# EAGLE library part IS65WV1288BLL-* (library memory-issi-asynsram)
128k x 8 low voltage, ultra low power CMOS static RAM 55ns access time 3.6V power supply
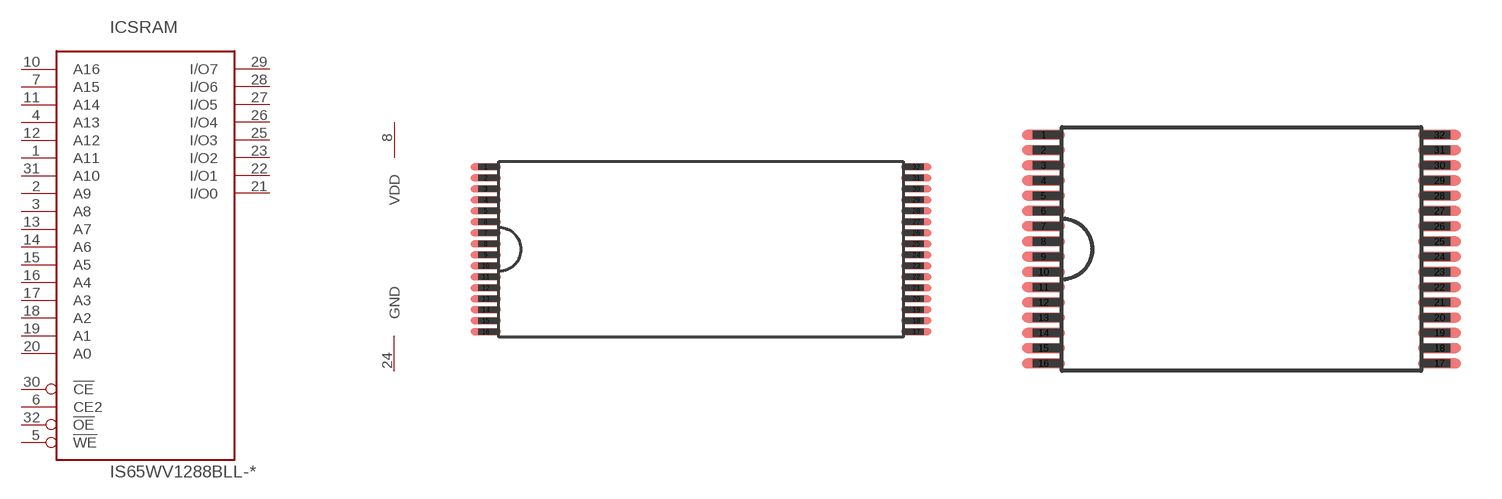
[diagram p25: symbol with the pads of TSOP-I-32-8X20MM; footprints TSOP-I-32-8X20MM, TSOP-I-32-8X13.4MM]

Designator prefix IC; gates SRAM=128KX8_TYP2 PWR=PWR_VDD1_GND1

## IS65WV1288BLL-55T  [TSOP-I-32-8X20MM]
1  SRAM:A11  in
2  SRAM:A9  in
3  SRAM:A8  in
4  SRAM:A13  in
5  SRAM:!WE  in
6  SRAM:CE2  in
7  SRAM:A15  in
8  PWR:VDD  pwr
10  SRAM:A16  in
11  SRAM:A14  in
12  SRAM:A12  in
13  SRAM:A7  in
14  SRAM:A6  in
15  SRAM:A5  in
16  SRAM:A4  in
17  SRAM:A3  in
18  SRAM:A2  in
19  SRAM:A1  in
20  SRAM:A0  in
21  SRAM:I/O0  hiz
22  SRAM:I/O1  hiz
23  SRAM:I/O2  hiz
24  PWR:GND  pwr
25  SRAM:I/O3  hiz
26  SRAM:I/O4  hiz
27  SRAM:I/O5  hiz
28  SRAM:I/O6  hiz
29  SRAM:I/O7  hiz
30  SRAM:!CE  in
31  SRAM:A10  in
32  SRAM:!OE  in

## IS65WV1288BLL-55H  [TSOP-I-32-8X13.4MM]
Pads as for TSOP-I-32-8X20MM

## Footprint TSOP-I-32-8X20MM (pad centres in mm)
TSOP-I-32 32-pin thin small-outline package, Typ I
smd 1.4 x 0.33: 1 -9.8,3.75; 2 -9.8,3.25; 3 -9.8,2.75; 4 -9.8,2.25; 5 -9.8,1.75; 6 -9.8,1.25; 7 -9.8,0.75; 8 -9.8,0.25; 9 -9.8,-0.25; 10 -9.8,-0.75; 11 -9.8,-1.25; 12 -9.8,-1.75; 13 -9.8,-2.25; 14 -9.8,-2.75; 15 -9.8,-3.25; 16 -9.8,-3.75; 17 9.8,-3.75; 18 9.8,-3.25; 19 9.8,-2.75; 20 9.8,-2.25; 21 9.8,-1.75; 22 9.8,-1.25; 23 9.8,-0.75; 24 9.8,-0.25; 25 9.8,0.25; 26 9.8,0.75; 27 9.8,1.25; 28 9.8,1.75; 29 9.8,2.25; 30 9.8,2.75; 31 9.8,3.25; 32 9.8,3.75

## Footprint TSOP-I-32-8X13.4MM (pad centres in mm)
TSOP-I-32 32-pin thin small-outline package, Typ I
smd 1.4 x 0.33: 1 -6.5,3.75; 2 -6.5,3.25; 3 -6.5,2.75; 4 -6.5,2.25; 5 -6.5,1.75; 6 -6.5,1.25; 7 -6.5,0.75; 8 -6.5,0.25; 9 -6.5,-0.25; 10 -6.5,-0.75; 11 -6.5,-1.25; 12 -6.5,-1.75; 13 -6.5,-2.25; 14 -6.5,-2.75; 15 -6.5,-3.25; 16 -6.5,-3.75; 17 6.5,-3.75; 18 6.5,-3.25; 19 6.5,-2.75; 20 6.5,-2.25; 21 6.5,-1.75; 22 6.5,-1.25; 23 6.5,-0.75; 24 6.5,-0.25; 25 6.5,0.25; 26 6.5,0.75; 27 6.5,1.25; 28 6.5,1.75; 29 6.5,2.25; 30 6.5,2.75; 31 6.5,3.25; 32 6.5,3.75